# Altium footprint library ArduinoHeader.PcbLib: 1 footprints
Each footprint in its own frame and in the unit in brackets; x right, y up, seen from the top. Pads: shape width x height; smd on the part's side, far side on the other; paste and mask are expansions set on the pad; w line width, h text height; cw(c..) or ccw(c..) is an arc to the next point about the centre after c.
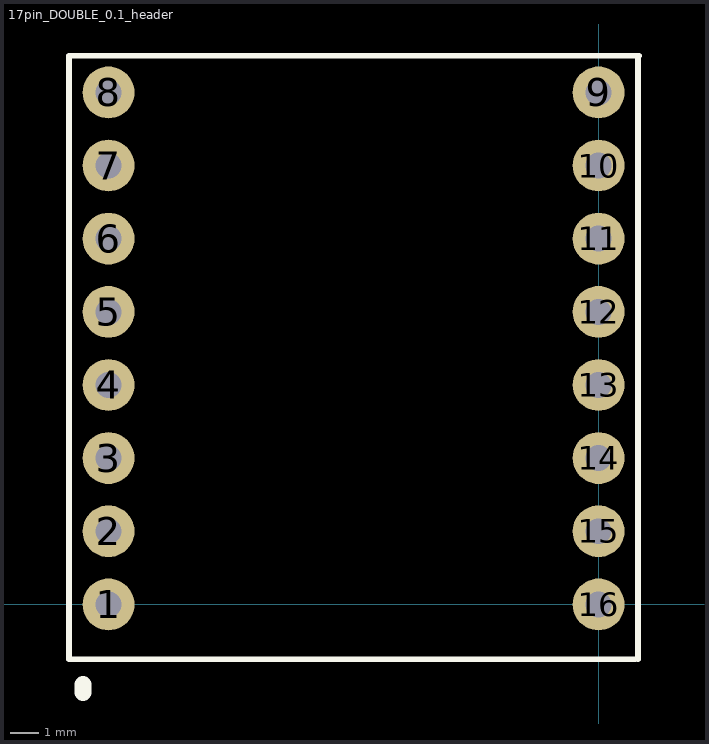
[diagram p0: the footprint, top view; thin cyan lines are the x and y axes]

## 17pin_DOUBLE_0.1_header [mm]
pads (16):
  round 1.8 hole 0.9: 1(-17.018,0) 2(-17.018,2.54) 3(-17.018,5.08) 4(-17.018,7.62) 5(-17.018,10.16) 6(-17.018,12.7) 7(-17.018,15.24) 8(-17.018,17.78) 9(0,17.78) 10(0,15.24) 11(0,12.7) 12(0,10.16) 13(0,7.62) 14(0,5.08) 15(0,2.54) 16(0,0)
Top Overlay:
  lines w0.2: 1.27,-1.907 -18.388,-1.907 -18.388,19.05 1.397,19.05 ; 1.37,-1.907 1.37,19.05
  lines w0.6: -17.907,-3.048 -17.907,-2.794
3D body: height 4, standoff -3.5, extent -17.272,-0.444 -16.764,0.445
3D body: height 4, standoff -3.5, extent -17.272,2.096 -16.764,2.985
3D body: height 4, standoff -3.5, extent -17.272,4.636 -16.764,5.525
3D body: height 4, standoff -3.5, extent -17.272,7.176 -16.764,8.065
3D body: height 4, standoff -3.5, extent -17.272,9.716 -16.764,10.605
3D body: height 4, standoff -3.5, extent -17.272,12.256 -16.764,13.145
3D body: height 4, standoff -3.5, extent -17.272,14.796 -16.764,15.685
3D body: height 4, standoff -3.5, extent -17.272,17.336 -16.764,18.225
3D body: height 4, standoff -3.5, extent -0.254,17.336 0.254,18.225
3D body: height 4, standoff -3.5, extent -0.254,14.796 0.254,15.685
3D body: height 4, standoff -3.5, extent -0.254,12.256 0.254,13.145
3D body: height 4, standoff -3.5, extent -0.254,9.716 0.254,10.605
3D body: height 4, standoff -3.5, extent -0.254,7.176 0.254,8.065
3D body: height 4, standoff -3.5, extent -0.254,4.636 0.254,5.525
3D body: height 4, standoff -3.5, extent -0.254,2.096 0.254,2.985
3D body: height 4, standoff -3.5, extent -0.254,-0.444 0.254,0.445